# EAGLE library part IC_TDA19988_HVQFN64_5_QFN64S9X9 (library BeagleBone_Black_egl)
IC_TDA19988_HVQFN64_5_QFN64S9X9
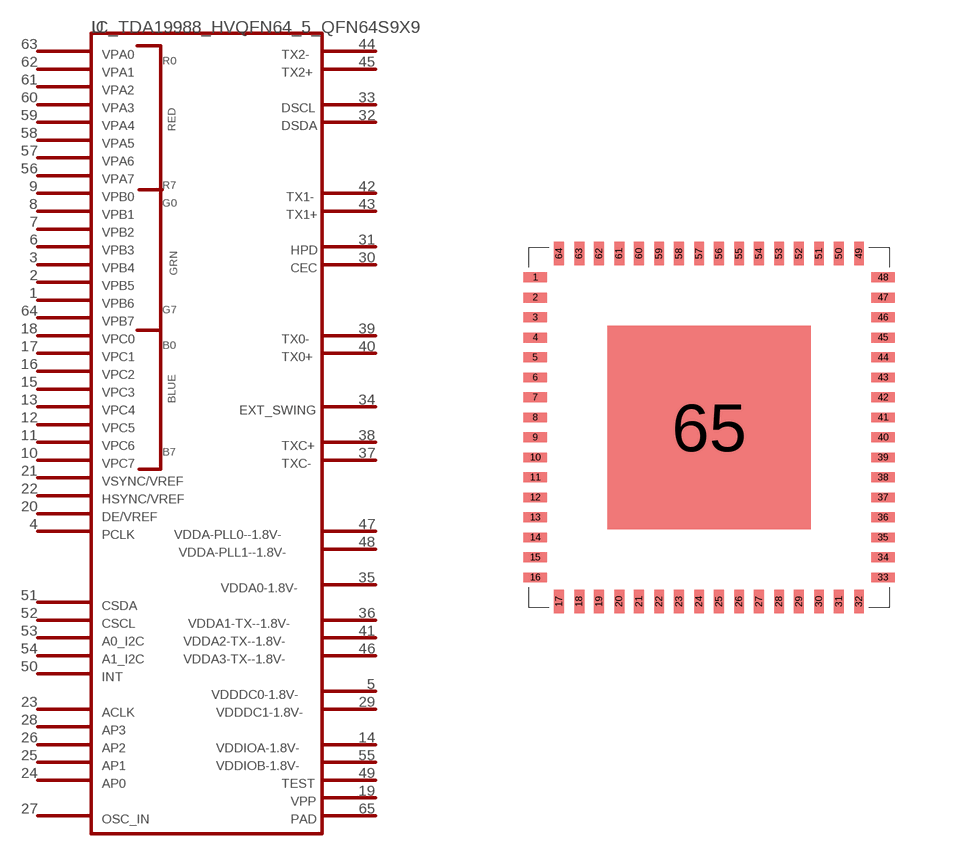
[diagram p10: symbol with the pads of QFN64S9X9P5; footprint QFN64S9X9P5]

Designator prefix -

## IC_TDA19988_HVQFN64_5_QFN64S9X9  [QFN64S9X9P5]
1  15
2  14
3  13
4  43
5  55
6  12
7  11
8  10
9  9
10  24
11  23
12  22
13  21
14  49
15  20
16  19
17  18
18  17
19  50
20  27
21  25
22  26
23  44
24  45
25  46
26  48
27  59
28  60
29  56
30  34
31  32
32  29
33  28
34  47
35  53
36  54
37  36
38  35
39  38
40  37
41  61
42  40
43  39
44  42
45  41
46  62
47  52
48  63
49  51
50  33
51  31
52  30
53  57
54  58
55  64
56  8
57  7
58  6
59  5
60  4
61  3
62  2
63  1
64  16
65  65

## Footprint QFN64S9X9P5 (pad centres in mm)
smd 0.6 x 0.25: 1 -4.35,3.75; 2 -4.35,3.25; 3 -4.35,2.75; 4 -4.35,2.25; 5 -4.35,1.75; 6 -4.35,1.25; 7 -4.35,0.75; 8 -4.35,0.25; 9 -4.35,-0.25; 10 -4.35,-0.75; 11 -4.35,-1.25; 12 -4.35,-1.75; 13 -4.35,-2.25; 14 -4.35,-2.75; 15 -4.35,-3.25; 16 -4.35,-3.75; 33 4.35,-3.75; 34 4.35,-3.25; 35 4.35,-2.75; 36 4.35,-2.25; 37 4.35,-1.75; 38 4.35,-1.25; 39 4.35,-0.75; 40 4.35,-0.25; 41 4.35,0.25; 42 4.35,0.75; 43 4.35,1.25; 44 4.35,1.75; 45 4.35,2.25; 46 4.35,2.75; 47 4.35,3.25; 48 4.35,3.75
smd 0.25 x 0.6: 17 -3.75,-4.35; 18 -3.25,-4.35; 19 -2.75,-4.35; 20 -2.25,-4.35; 21 -1.75,-4.35; 22 -1.25,-4.35; 23 -0.75,-4.35; 24 -0.25,-4.35; 25 0.25,-4.35; 26 0.75,-4.35; 27 1.25,-4.35; 28 1.75,-4.35; 29 2.25,-4.35; 30 2.75,-4.35; 31 3.25,-4.35; 32 3.75,-4.35; 49 3.75,4.35; 50 3.25,4.35; 51 2.75,4.35; 52 2.25,4.35; 53 1.75,4.35; 54 1.25,4.35; 55 0.75,4.35; 56 0.25,4.35; 57 -0.25,4.35; 58 -0.75,4.35; 59 -1.25,4.35; 60 -1.75,4.35; 61 -2.25,4.35; 62 -2.75,4.35; 63 -3.25,4.35; 64 -3.75,4.35
smd 5.08 x 5.08: 65 0,0